# Altium schematic symbol library Transistor-Library.SchLib: 2 symbols
Pins are listed as number, name and electrical type; pins without a type are passive.

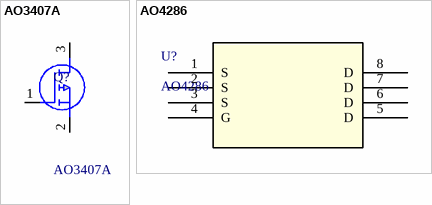
[diagram p0: symbols AO3407A to AO4286]

## AO3407A
designator Q?
Trans Mosfet P-ch 30V 4.3A 3-PIN SOT-23 / Mosfet P-ch 30V 4.3A SOT23; Manufacturer_Name: Alpha & Omega Semiconductors; Manufacturer: Alpha & Omega Semiconductor; Geometry.Height: 1.25mm; Drain to Source Resistance: 48mΩ; Gate to Source Voltage (Vgs): 20V; Input Capacitance: 830pF; Max Power Dissipation: 1.4W; Number of Elements: 1; Manufacturer_Part_Number: AO3407A; Mouser Part Number: *; Mouser Price/Stock: *; Arrow Part Number: AO3407A; Arrow Price/Stock: https://www.arrow.com/en/products/ao3407a/alpha-and-omega-semiconductor?utm_currency=USD&region=nac; Datasheet Link: http://www.aosmd.com/pdfs/datasheet/ao3407a.pdf; Supplier: DigiKey; Supplier Part Number: 785-1006-1-ND; Manufacturer Part Number: AO3407A; RoHS: Compliant; Category: MOSFETs; Stock: 638444; Pricing: 1=0,46, 10=0,282, 100=0,1787, 500=0,1337, 1000=0,11915 (USD); Case/Package: SOT-23; Continuous Drain Current (ID): 4.3A; Drain to Source Voltage (Vdss): 30V; Lead Free: Lead Free; Lifecycle Status: Production; Max Operating Temperature: 150°C; Min Breakdown Voltage: 30V; Min Operating Temperature: -55°C; Mounting Technology: Surface Mount; Pins: 3; Number of Terminals: 3; Power Dissipation: 1.4W; Radiation Hardening: No; Rds On Max: 48mΩ; REACH SVHC: Yes; Schedule B: 8541290080, 8541290080|8541290080|8541290080|8541290080|8541290080; ComponentLink1URL: https://datasheet.octopart.com:443/AO3407A-Alpha-%26-Omega-Semiconductor-datasheet-17018024.pdf?src-supplier=IHS; ComponentLink1Description: https://datasheet.octopart.com:443/AO3407A-Alpha-%26-Omega-Semiconductor-datasheet-17018024.pdf?src-supplier=IHS; ComponentLink2URL: https://sigma.octopart.com:443/140150677/technical_drawing/Alpha-%26-Omega-Semiconductor-AO3407A.pdf?src-supplier=Alpha+%26+Omega+Semiconductor+SCT; ComponentLink2Description: https://sigma.octopart.com:443/140150677/technical_drawing/Alpha-%26-Omega-Semiconductor-AO3407A.pdf?src-supplier=Alpha+%26+Omega+Semiconductor+SCT; ComponentLink3URL: https://datasheet.octopart.com:443/AO3407A-Alpha-%26-Omega-Semiconductor-datasheet-14060812.pdf?src-supplier=iiiC; ComponentLink3Description: https://datasheet.octopart.com:443/AO3407A-Alpha-%26-Omega-Semiconductor-datasheet-14060812.pdf?src-supplier=iiiC; ComponentLink4URL: https://datasheet.octopart.com:443/AO3407A-Alpha-%26-Omega-Semiconductor-datasheet-5389863.pdf?src-supplier=Verical; ComponentLink4Description: https://datasheet.octopart.com:443/AO3407A-Alpha-%26-Omega-Semiconductor-datasheet-5389863.pdf?src-supplier=Verical
footprint AO3407A
pins: 1 G, 2 S, 3 D

## AO4286
designator U?
No Description Available; Manufacturer_Name: Alpha and Omega Semiconductor; Copyright: Copyright (C) 2025 Ultra Librarian. All rights reserved.; Manufacturer_Part_Number: AO4286; RefDes: RefDes; Type: Type; ComponentLink1Description: Datasheet; ComponentLink1URL: https://datasheet.ciiva.com/pdfs/VipMasterIC/IC/ALOM/ALOM-S-A0002373245/ALOM-S-A0002373245-1.pdf?src-supplier=IHS+Markit
footprint SO-8_AOS
pins: 1 S, 2 S, 3 S, 4 G, 5 D, 6 D, 7 D, 8 D